# Altium schematic symbol library NIXIE_clock.SchLib: 6 symbols
Pins are listed as number, name and electrical type; pins without a type are passive.

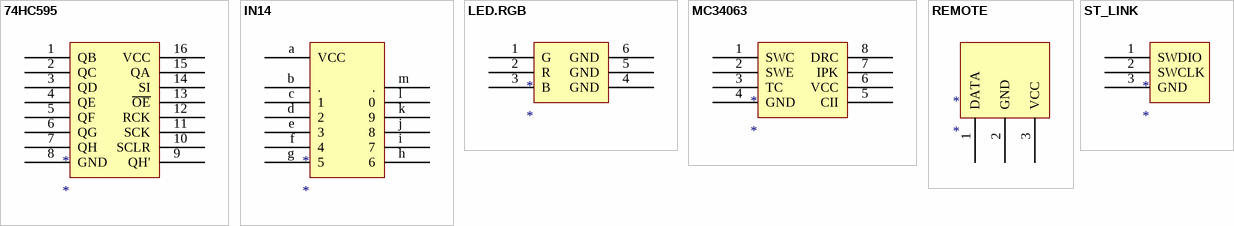
[diagram p0: symbols 74HC595 to ST_LINK]

## 74HC595
designator *
pins: 1 QB, 2 QC, 3 QD, 4 QE, 5 QF, 6 QG, 7 QH, 8 GND, 9 QH', 10 SCLR, 11 SCK, 12 RCK, 13 ~{OE}, 14 SI, 15 QA, 16 VCC

## IN14
designator *
pins: a VCC, b ., c 1, d 2, e 3, f 4, g 5, h 6, i 7, j 8, k 9, l 0, m .

## LED.RGB
designator *
pins: 1 G, 2 R, 3 B, 4 GND, 5 GND, 6 GND

## MC34063
designator *
pins: 1 SWC, 2 SWE, 3 TC, 4 GND, 5 CII, 6 VCC, 7 IPK, 8 DRC

## REMOTE
designator *
pins: 1 DATA, 2 GND, 3 VCC

## ST_LINK
designator *
pins: 1 SWDIO, 2 SWCLK, 3 GND